# EAGLE library part PIC18F2431 (library 0SBLib)
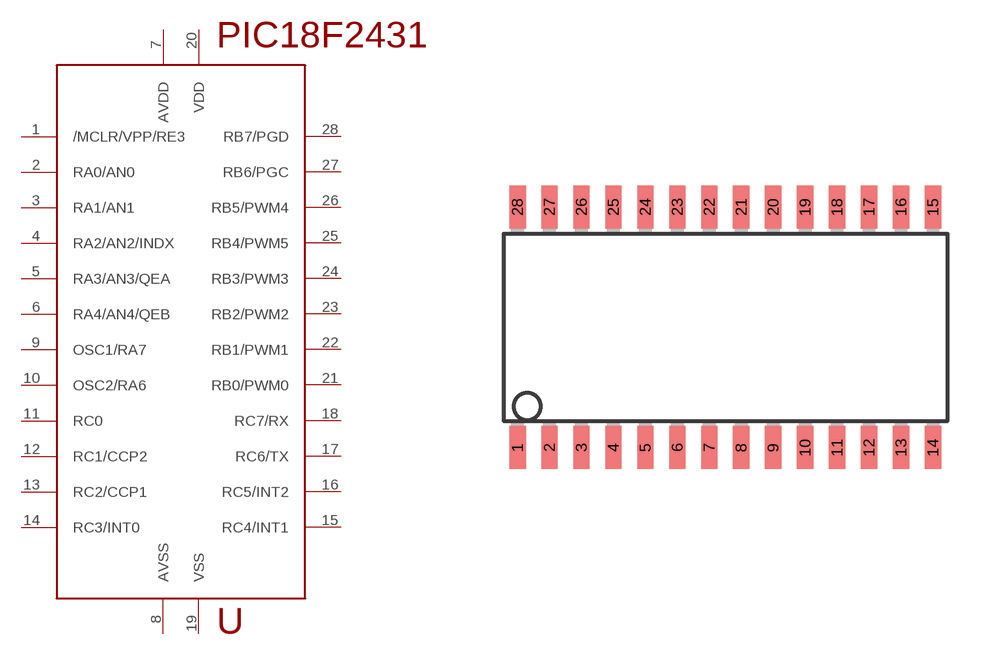
[diagram p4: symbol with the pads of SO28W; footprint SO28W]

Designator prefix -

## PIC18F2431  [SO28W]
1  /MCLR/VPP/RE3
2  RA0/AN0
3  RA1/AN1
4  RA2/AN2/INDX
5  RA3/AN3/QEA
6  RA4/AN4/QEB
7  AVDD
8  AVSS
9  OSC1/RA7
10  OSC2/RA6
11  RC0
12  RC1/CCP2
13  RC2/CCP1
14  RC3/INT0
15  RC4/INT1
16  RC5/INT2
17  RC6/TX
18  RC7/RX
19  VSS
20  VDD
21  RB0/PWM0
22  RB1/PWM1
23  RB2/PWM2
24  RB3/PWM3
25  RB4/PWM5
26  RB5/PWM4
27  RB6/PGC
28  RB7/PGD

## Footprint SO28W (pad centres in mm)
28-Lead Plastic Small Outline (SO) Wide, 300 mil Body (SOIC) Source: http://ww1.microchip.com/downloads/en/devicedoc/39632c.pdf
smd 0.65 x 1.7: 1 -7.62,-4.78; 2 -6.35,-4.78; 3 -5.08,-4.78; 4 -3.81,-4.78; 5 -2.54,-4.78; 6 -1.27,-4.78; 7 0,-4.78; 8 1.27,-4.78; 9 2.54,-4.78; 10 3.81,-4.78; 11 5.08,-4.78; 12 6.35,-4.78; 13 7.62,-4.78; 14 8.89,-4.78; 15 8.89,4.78; 16 7.62,4.78; 17 6.35,4.78; 18 5.08,4.78; 19 3.81,4.78; 20 2.54,4.78; 21 1.27,4.78; 22 0,4.78; 23 -1.27,4.78; 24 -2.54,4.78; 25 -3.81,4.78; 26 -5.08,4.78; 27 -6.35,4.78; 28 -7.62,4.78